# EAGLE library part PIC18F2XK22 (library edeca)
Microchip PIC18F2xK22 with nanoWatt technology
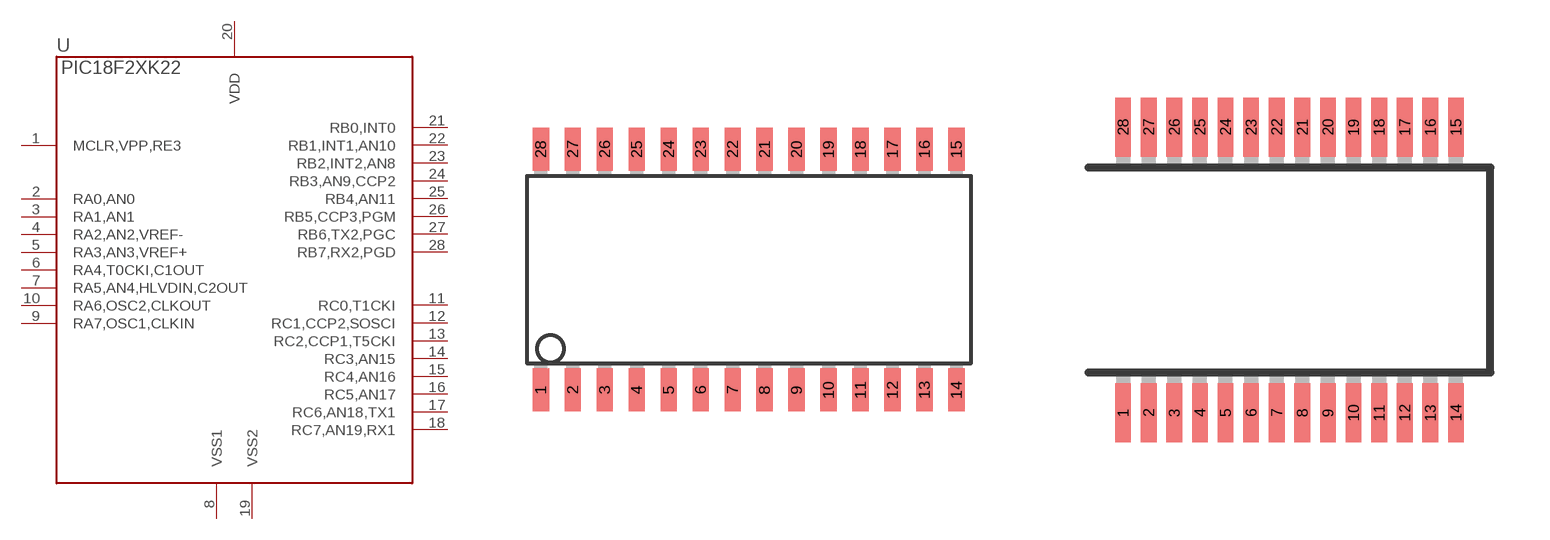
[diagram p9: symbol with the pads of SOIC28; footprints SOIC28, SSOP28]

Designator prefix -

## PIC18F2XK22-SO  [SOIC28]
1  MCLR,VPP,RE3  in
2  RA0,AN0
3  RA1,AN1
4  RA2,AN2,VREF-
5  RA3,AN3,VREF+
6  RA4,T0CKI,C1OUT
7  RA5,AN4,HLVDIN,C2OUT
8  VSS1  pwr
9  RA7,OSC1,CLKIN  in
10  RA6,OSC2,CLKOUT  out
11  RC0,T1CKI
12  RC1,CCP2,SOSCI
13  RC2,CCP1,T5CKI
14  RC3,AN15
15  RC4,AN16
16  RC5,AN17
17  RC6,AN18,TX1
18  RC7,AN19,RX1
19  VSS2  pwr
20  VDD  pwr
21  RB0,INT0
22  RB1,INT1,AN10
23  RB2,INT2,AN8
24  RB3,AN9,CCP2
25  RB4,AN11
26  RB5,CCP3,PGM
27  RB6,TX2,PGC
28  RB7,RX2,PGD

## PIC18F2XK22-SS  [SSOP28]
Pads as for SOIC28

## Footprint SOIC28 (pad centres in mm)
smd 0.65 x 1.7: 1 -7.62,-4.78; 2 -6.35,-4.78; 3 -5.08,-4.78; 4 -3.81,-4.78; 5 -2.54,-4.78; 6 -1.27,-4.78; 7 0,-4.78; 8 1.27,-4.78; 9 2.54,-4.78; 10 3.81,-4.78; 11 5.08,-4.78; 12 6.35,-4.78; 13 7.62,-4.78; 14 8.89,-4.78; 15 8.89,4.78; 16 7.62,4.78; 17 6.35,4.78; 18 5.08,4.78; 19 3.81,4.78; 20 2.54,4.78; 21 1.27,4.78; 22 0,4.78; 23 -1.27,4.78; 24 -2.54,4.78; 25 -3.81,4.78; 26 -5.08,4.78; 27 -6.35,4.78; 28 -7.62,4.78

## Footprint SSOP28 (pad centres in mm)
smd 0.4 x 1.5: 1 -4.225,-3.625; 2 -3.575,-3.625; 3 -2.925,-3.625; 4 -2.275,-3.625; 5 -1.625,-3.625; 6 -0.975,-3.625; 7 -0.325,-3.625; 8 0.325,-3.625; 9 0.975,-3.625; 10 1.625,-3.625; 11 2.275,-3.625; 12 2.925,-3.625; 13 3.575,-3.625; 14 4.225,-3.625; 15 4.225,3.625; 16 3.575,3.625; 17 2.925,3.625; 18 2.275,3.625; 19 1.625,3.625; 20 0.975,3.625; 21 0.325,3.625; 22 -0.325,3.625; 23 -0.975,3.625; 24 -1.625,3.625; 25 -2.275,3.625; 26 -2.925,3.625; 27 -3.575,3.625; 28 -4.225,3.625